# Altium footprint library RESC6332X055.PcbLib: 3 footprints
Each footprint in its own frame and in the unit in brackets; x right, y up, seen from the top. Pads: shape width x height; smd on the part's side, far side on the other; paste and mask are expansions set on the pad; w line width, h text height; cw(c..) or ccw(c..) is an arc to the next point about the centre after c.
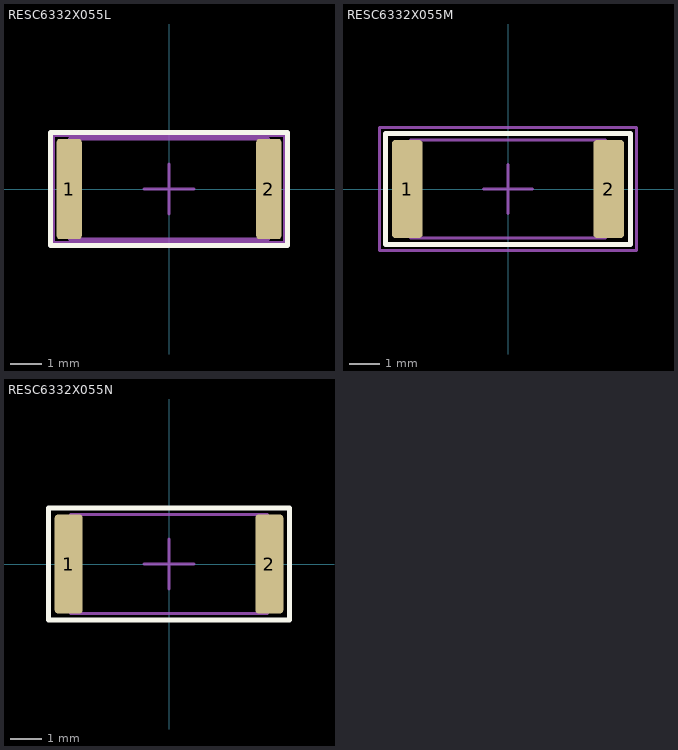
[diagram p0: the footprints below, top view; thin cyan lines are the x and y axes]

## RESC6332X055L [mm] "Resistors, Chip"
height 0.65
pads (2):
  rrect25% 0.8x3.2 smd: 1(-3.18,0) 2(3.18,0)
Top Overlay:
  lines w0.16: -3.78,-1.8 3.78,-1.8 3.78,1.8 -3.78,1.8 -3.78,-1.8
Top Component Center:
  lines w0.1: -0.8,0 0.8,0 ; 0,-0.8 0,0.8
Top Courtyard:
  lines w0.1: -3.68,-1.7 3.68,-1.7 3.68,1.7 -3.68,1.7 -3.68,-1.7
Top Assembly:
  lines w0.1: -3.175,-1.6 3.175,-1.6 3.175,1.6 -3.175,1.6 -3.175,-1.6
  text ".Designator" at 0,0 h1
3D body "RESC6332X055L.STEP": height 0.55, standoff 0, extent -3.175,-1.6 3.175,1.6

## RESC6332X055M [mm] "Resistors, Chip"
height 0.65
pads (2):
  rrect25% 1x3.2 smd: 1(-3.28,0) 2(3.28,0)
Top Overlay:
  lines w0.16: -3.98,-1.8 3.98,-1.8 3.98,1.8 -3.98,1.8 -3.98,-1.8
Top Component Center:
  lines w0.1: -0.8,0 0.8,0 ; 0,-0.8 0,0.8
Top Courtyard:
  lines w0.1: -4.18,-2 4.18,-2 4.18,2 -4.18,2 -4.18,-2
Top Assembly:
  lines w0.1: -3.175,-1.6 3.175,-1.6 3.175,1.6 -3.175,1.6 -3.175,-1.6
  text ".Designator" at 0,0 h1
3D body "RESC6332X055M.STEP": height 0.55, standoff 0, extent -3.175,-1.6 3.175,1.6

## RESC6332X055N [mm] "Resistors, Chip"
height 0.65
pads (2):
  rrect25% 0.9x3.2 smd: 1(-3.23,0) 2(3.23,0)
Top Overlay:
  lines w0.16: -3.88,-1.8 3.88,-1.8 3.88,1.8 -3.88,1.8 -3.88,-1.8
Top Component Center:
  lines w0.1: -0.8,0 0.8,0 ; 0,-0.8 0,0.8
Top Courtyard:
  lines w0.1: -3.88,-1.8 3.88,-1.8 3.88,1.8 -3.88,1.8 -3.88,-1.8
Top Assembly:
  lines w0.1: -3.175,-1.6 3.175,-1.6 3.175,1.6 -3.175,1.6 -3.175,-1.6
  text ".Designator" at 0,0 h1
3D body "RESC6332X055N.STEP": height 0.55, standoff 0, extent -3.175,-1.6 3.175,1.6